# EAGLE library part 8-PIN-FEMALE-CONNECTOR (library 8-pin-female-connector)
8 Pin Female Connector
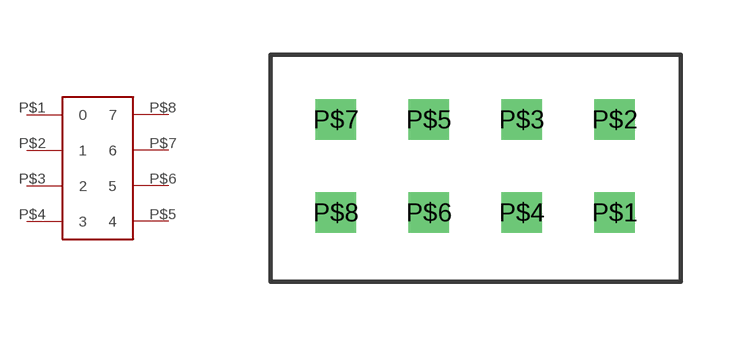
[diagram p0: symbol with the pads of 8-PIN-HEADER; footprint 8-PIN-HEADER]

Designator prefix -

## 8-PIN-FEMALE-CONNECTORDIP  [8-PIN-HEADER]
P$1  0
P$2  1
P$3  2
P$4  3
P$5  4
P$6  5
P$7  6
P$8  7

## Footprint 8-PIN-HEADER (pad centres in mm)
drill 0.6 square: P$1 0,0; P$2 0,2.54; P$3 -2.54,2.54; P$4 -2.54,0; P$5 -5.08,2.54; P$6 -5.08,0; P$7 -7.62,2.54; P$8 -7.62,0